# EAGLE library part 7SEG_X2_CAT (library displays)
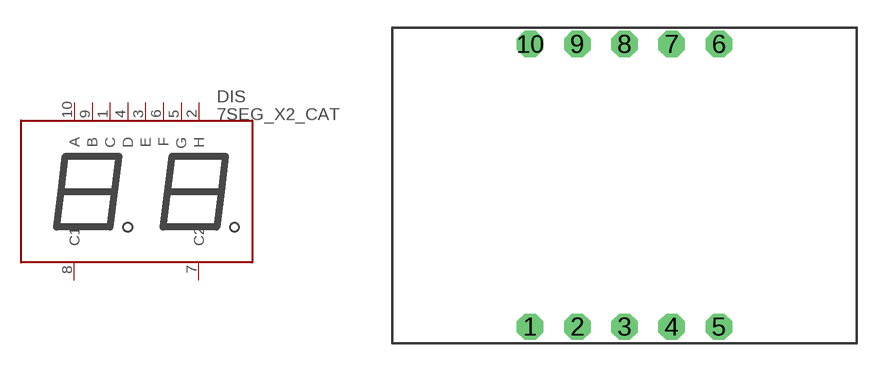
[diagram p1: symbol with the pads of 7SEG_X2_CAT; footprint 7SEG_X2_CAT]

Designator prefix DIS

## 7SEG_X2_CAT  [7SEG_X2_CAT]
1  C
2  H
3  E
4  D
5  G
6  F
7  C2
8  C1
9  B
10  A

## Footprint 7SEG_X2_CAT (pad centres in mm)
drill 0.6 pad 1.422 octagon: 1 -5.08,-7.62; 2 -2.54,-7.62; 3 0,-7.62; 4 2.54,-7.62; 5 5.08,-7.62; 6 5.08,7.62; 7 2.54,7.62; 8 0,7.62; 9 -2.54,7.62; 10 -5.08,7.62